# Altium footprint library boxer_ic.PcbLib: 39 footprints (part 3 of 3)
Each footprint in its own frame and in the unit in brackets; x right, y up, seen from the top. Pads: shape width x height; smd on the part's side, far side on the other; paste and mask are expansions set on the pad; w line width, h text height; cw(c..) or ccw(c..) is an arc to the next point about the centre after c.
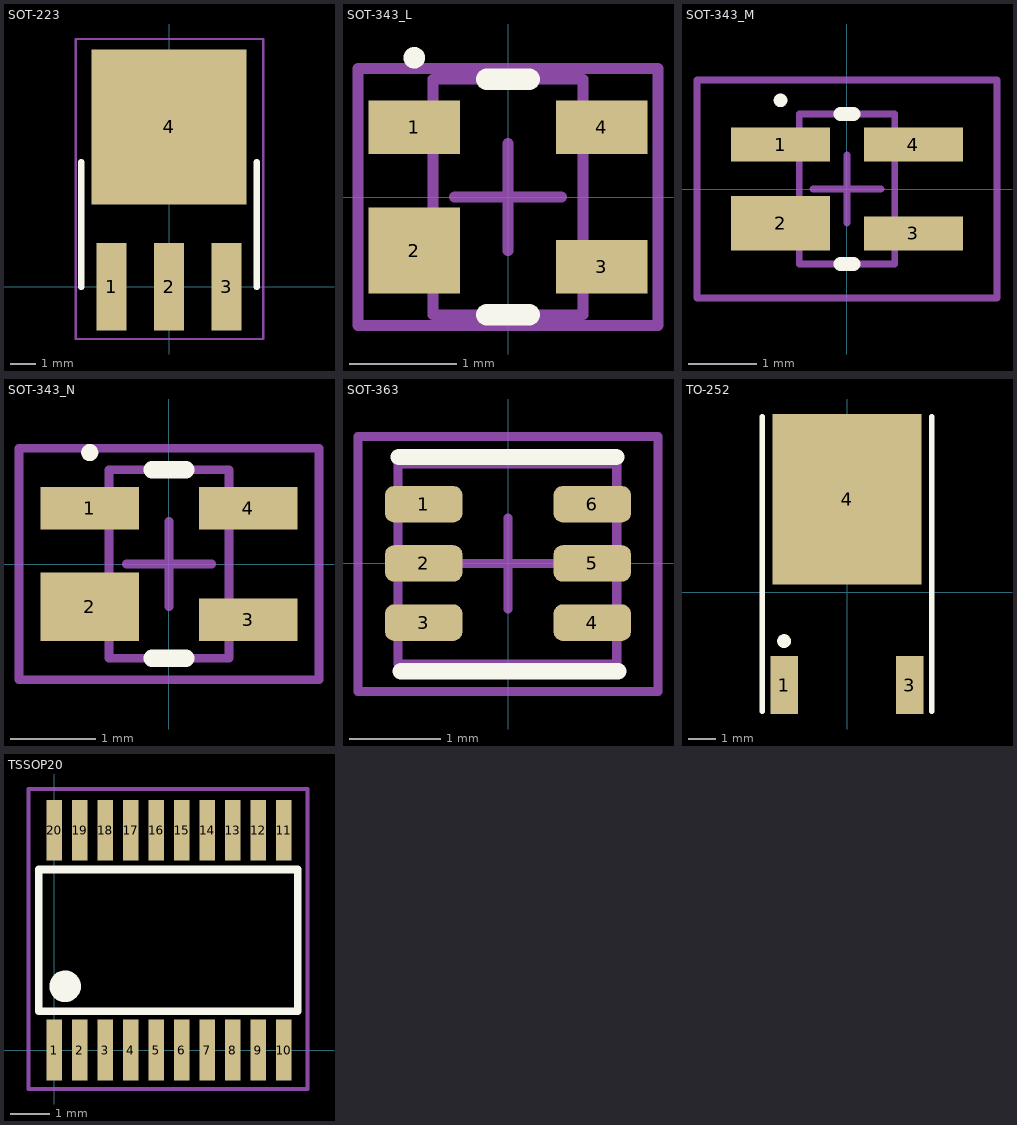
[diagram p2: the footprints below, top view; thin cyan lines are the x and y axes]

## SOT-223 [mm]
pads (4):
  rect 1.2x3.5 smd: 1(-2.3,0) 2(0,0) 3(2.3,0)
  rect 6.2x6.2 smd: 4(0,6.4)
Top Overlay:
  lines w0.254: -3.505,0 -3.505,5 ; 3.505,0 3.505,5
Mechanical 15:
  lines w0.1: -3.734,-2.083 3.766,-2.083 3.766,9.917 -3.734,9.917 -3.734,-2.083
3D body "CircuitWorks-SOT-223.step": height 1.65, standoff -0.03, extent -3.25,-0.331 3.25,6.629

## SOT-343_L [mm] "SOT343, 4-Leads, Body 2x1.3 mm, Pitch 1.3mm, Lead Span 2.1mm, IPC High Density"
height 1
pads (4):
  rect 0.85x0.5 smd: 1(-0.875,0.65) 3(0.875,-0.65) 4(0.875,0.65)
  rect 0.85x0.8 smd: 2(-0.875,-0.5)
Top Overlay:
  circle w0.1: c-0.875,1.3 r0.05
  lines w0.2: -0.2,-1.1 0.2,-1.1 ; -0.2,1.1 0.2,1.1
Mechanical 13:
  lines w0.1: -0.7,-1.1 0.7,-1.1 0.7,1.1 -0.7,1.1 -0.7,-1.1
Mechanical 15:
  lines w0.1: -0.5,0 0.5,0 ; 0,-0.5 0,0.5 ; -1.4,-1.2 1.4,-1.2 1.4,1.2 -1.4,1.2 -1.4,-1.2
3D body: height 1, standoff 0, extent -0.7,-1.1 0.7,1.1

## SOT-343_M [mm] "SOT343, 4-Leads, Body 2x1.3 mm, Pitch 1.3mm, Lead Span 2.1mm, IPC Low Density"
height 1
pads (4):
  rect 1.45x0.5 smd: 1(-0.975,0.65) 3(0.975,-0.65) 4(0.975,0.65)
  rect 1.45x0.8 smd: 2(-0.975,-0.5)
Top Overlay:
  circle w0.1: c-0.975,1.3 r0.05
  lines w0.2: -0.1,-1.1 0.1,-1.1 ; -0.1,1.1 0.1,1.1
Mechanical 13:
  lines w0.1: -0.7,-1.1 0.7,-1.1 0.7,1.1 -0.7,1.1 -0.7,-1.1
Mechanical 15:
  lines w0.1: -0.5,0 0.5,0 ; 0,-0.5 0,0.5 ; -2.2,-1.6 2.2,-1.6 2.2,1.6 -2.2,1.6 -2.2,-1.6
3D body: height 1, standoff 0, extent -0.7,-1.1 0.7,1.1

## SOT-343_N [mm] "SOT343, 4-Leads, Body 2x1.3 mm, Pitch 1.3mm, Lead Span 2.1mm, IPC Medium Density"
height 1
pads (4):
  rect 1.15x0.5 smd: 1(-0.925,0.65) 3(0.925,-0.65) 4(0.925,0.65)
  rect 1.15x0.8 smd: 2(-0.925,-0.5)
Top Overlay:
  circle w0.1: c-0.925,1.3 r0.05
  lines w0.2: -0.2,-1.1 0.2,-1.1 ; -0.2,1.1 0.2,1.1
Mechanical 13:
  lines w0.1: -0.7,-1.1 0.7,-1.1 0.7,1.1 -0.7,1.1 -0.7,-1.1
Mechanical 15:
  lines w0.1: -0.5,0 0.5,0 ; 0,-0.5 0,0.5 ; -1.75,-1.35 1.75,-1.35 1.75,1.35 -1.75,1.35 -1.75,-1.35
3D body: height 1, standoff 0, extent -0.7,-1.1 0.7,1.1

## SOT-363 [mm]
height 1
pads (6):
  rrect50% 0.85x0.4 smd: 1(-0.925,0.65) 2(-0.925,0) 3(-0.925,-0.65) 4(0.925,-0.65) 5(0.925,0) 6(0.925,0.65)
Top Overlay:
  lines w0.18: -1.2,1.168 1.187,1.168 ; -1.179,-1.183 1.209,-1.183
Mechanical 13:
  lines w0.1: -1.2,-1.106 -1.206,-1.106 ; -1.194,-1.106 -1.206,-1.106 ; -1.206,-1.106 1.194,-1.106 1.194,1.094 -1.206,1.094 -1.206,-1.106
Mechanical 15:
  lines w0.1: -0.5,0 0.5,0 ; 0,-0.5 0,0.5 ; -1.646,-1.406 1.646,-1.406 1.646,1.394 -1.646,1.394 -1.646,-1.406
3D body "User Library-SOT363-2.step": height 1.1, standoff 0, extent -1.206,-1.106 1.194,1.094

## TO-252 [mm] "D-PAK/TO-252-AA; 3 Leads (1 Cropped); Body 10.1 (inc. leads) x 6.6 mm (LxW max)"
height 2.4
pads (3):
  rect 1x2.1 smd: 1(-2.285,-3.375) 3(2.285,-3.375)
  rect 5.4x6.2 smd: 4(0,3.375)
Top Overlay:
  circle w0.25: c-2.285,-1.775 r0.125
  lines w0.2: -3.085,-4.325 -3.085,6.375 ; 3.085,-4.325 3.085,6.375
3D body: height 3, standoff 0, extent -2.87,-1.041 2.87,4.166
3D body: height 2, standoff 1, extent -2.731,-4.077 -1.841,1.13
3D body: height 2, standoff 1, extent 1.839,-4.077 2.729,1.13
3D body: height 1, standoff 0, extent -1.803,3.841 1.6,5.252

## TSSOP20 [mm] "TSSOP, Plastic; 20 Leads; Body Width 5.3 mm; Pitch 0.65 mm"
height 2
pads (20):
  rect 0.4x1.55 smd mask+0.07: 1(0,0) 2(0.65,0) 3(1.3,0) 4(1.95,0) 5(2.6,0) 6(3.25,0) 7(3.9,0) 8(4.55,0) 9(5.2,0) 10(5.85,0) 11(5.85,5.6) 12(5.2,5.6) 13(4.55,5.6) 14(3.9,5.6) 15(3.25,5.6) 16(2.6,5.6) 17(1.95,5.6) 18(1.3,5.6) 19(0.65,5.6) 20(0,5.6)
Top Overlay:
  circle w0.508: c0.279,1.626 r0.148
  lines w0.2: -0.393,0.991 -0.393,4.597 6.207,4.597 6.207,0.991 -0.393,0.991
Mechanical 15:
  lines w0.1: -0.658,-0.991 -0.658,6.653 6.452,6.653 6.452,-0.991 -0.658,-0.991
3D body "User Library-tssop-20-1.STEP": height 1.2, standoff 0, extent -0.379,-0.506 6.221,6.094